# Altium footprint library Antenna Tracker.PcbLib: 17 footprints (part 1 of 2)
Each footprint in its own frame and in the unit in brackets; x right, y up, seen from the top. Pads: shape width x height; smd on the part's side, far side on the other; paste and mask are expansions set on the pad; w line width, h text height; cw(c..) or ccw(c..) is an arc to the next point about the centre after c.
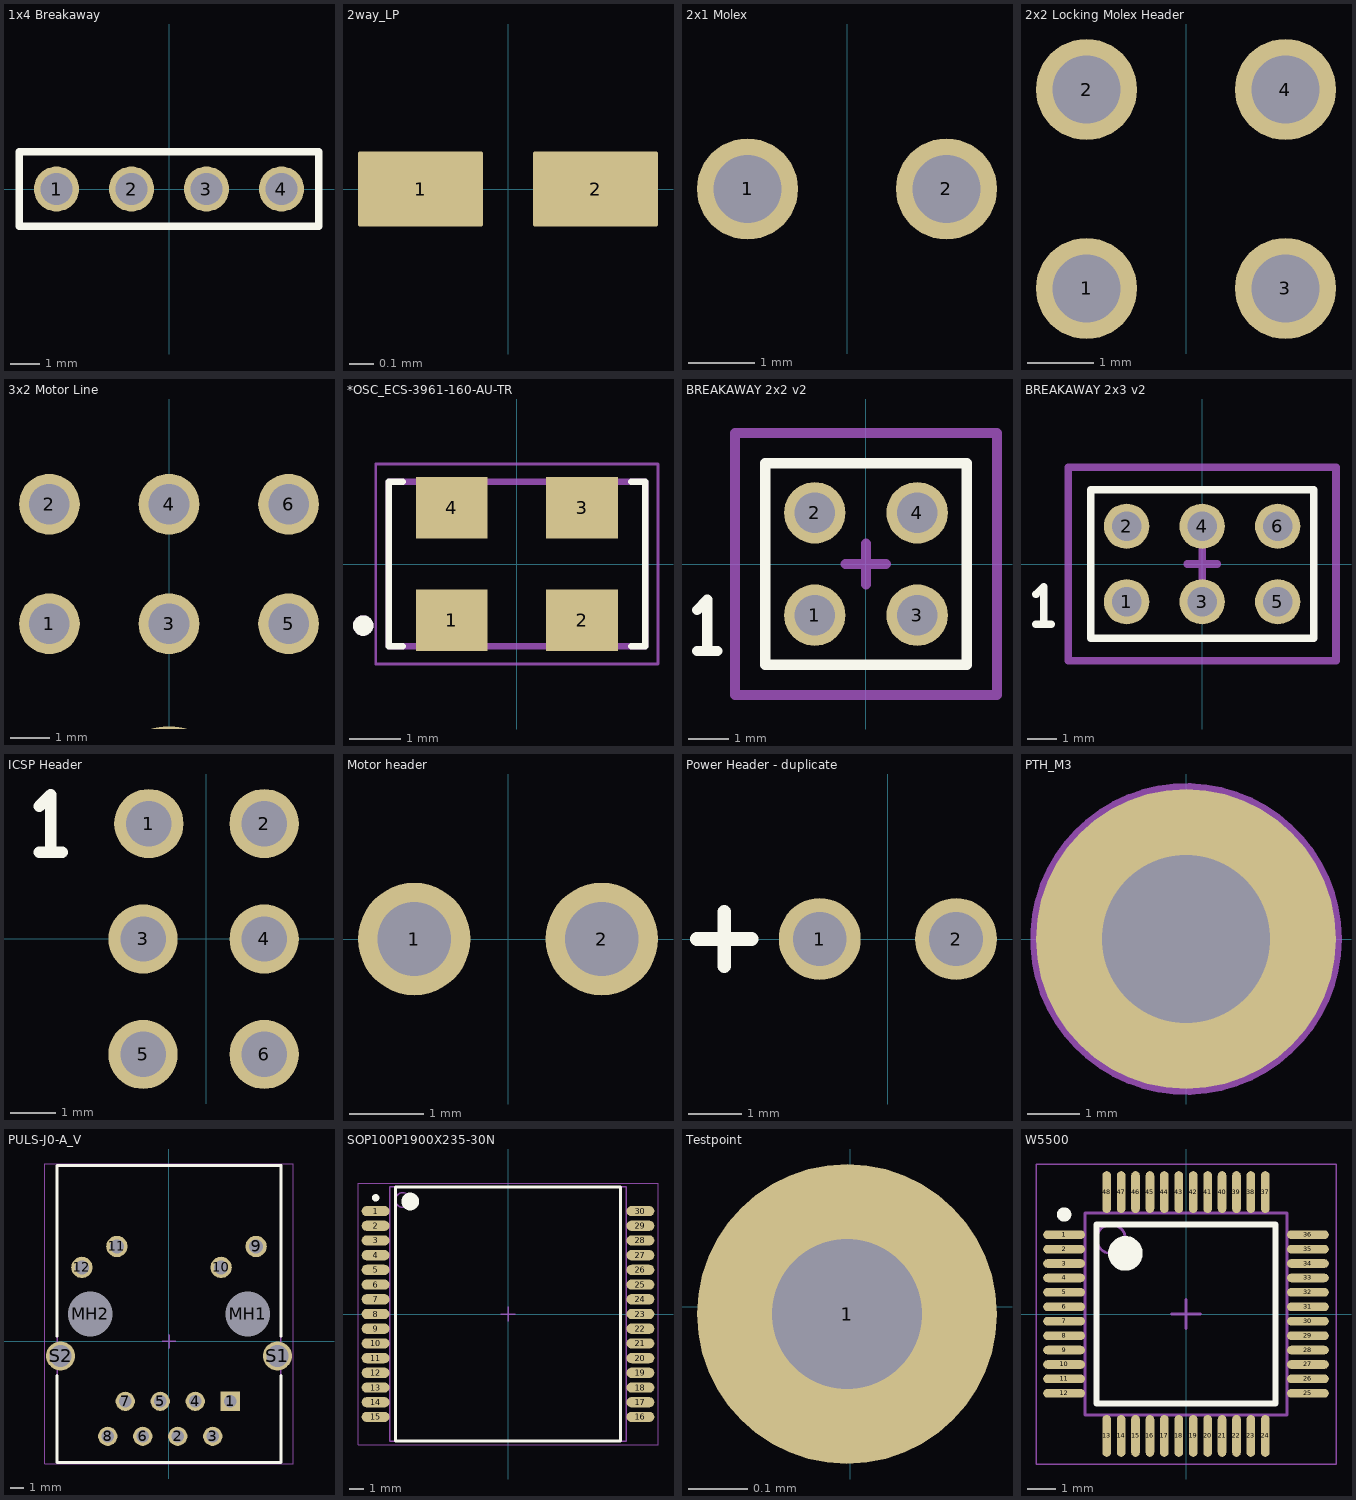
[diagram p0: the footprints below, top view; thin cyan lines are the x and y axes]

## 1x4 Breakaway [mil]
pads (4):
  round 60 hole 43.31: 1(-150,0) 2(-50,0) 3(50,0) 4(150,0)
Top Overlay:
  lines w10: -200,-50 200,-50 200,50 -200,50 -200,-50

## 2way_LP [mil] "2 way low power net tie junction"
height 1
pads (2):
  rrect5% 20x12 smd paste-100: 1(-14,0) 2(14,0)

## 2x1 Molex [mm] "0436500200"
height 6
pads (2):
  round 1.524 hole 1.02: 1(-1.5,4.32) 2(1.5,4.32)
via 0,0 diameter 3.5 hole 3
3D body: height 0.25, standoff 0, extent 1.27,0.635 1.27,0.635
3D body: height 0.25, standoff 0, extent 1.651,0.508 1.651,0.508
3D body "436500200.stp": height 5.64, standoff -3.27, extent -4.825,-4.569 4.825,5.331

## 2x2 Locking Molex Header [mm] "0430450601"
height 9
pads (4):
  round 1.524 hole 1.02: 1(-1.5,4.32) 2(-1.5,7.32) 3(1.5,4.32) 4(1.5,7.32)
via 0,0 diameter 3.5 hole 3
3D body "430450401.stp": height 8.83, standoff -3.12, extent -4.948,-4.569 5.202,7.671

## 3x2 Motor Line [mm] "0430450601"
height 9
pads (6):
  round 1.524 hole 1.02: 1(-3,4.32) 2(-3,7.32) 3(0,4.32) 4(0,7.32) 5(3,4.32) 6(3,7.32)
via 0,0 diameter 3.5 hole 3
3D body "430450601.stp": height 8.83, standoff -3.12, extent -6.448,-4.569 6.702,7.671

## *OSC_ECS-3961-160-AU-TR [mm]
pads (4):
  rect 1.4x1.2 smd: 1(-1.27,-1.1) 2(1.27,-1.1) 3(1.27,1.1) 4(-1.27,1.1)
Top Overlay:
  circle w0.2: c-3,-1.2 r0.1
  lines w0.127: -2.224,-1.6 -2.5,-1.6 -2.5,1.6 -2.224,1.6 ; 2.224,-1.6 2.5,-1.6 2.5,1.6 2.224,1.6
Mechanical 13:
  circle w0.2: c-3,-1.2 r0.1
  circle w0.2: c-3,-1.2 r0.1
  lines w0.127: -2.5,-1.6 -2.5,1.6 ; -2.5,-1.6 2.5,-1.6 ; -2.5,-1.6 -2.5,1.6 ; -2.5,-1.6 2.5,-1.6 ; -2.5,1.6 2.5,1.6 ; -2.5,1.6 2.5,1.6 ; 2.5,-1.6 2.5,1.6 ; 2.5,-1.6 2.5,1.6
Mechanical 15:
  lines w0.05: -2.75,-1.95 -2.75,1.95 2.75,1.95 2.75,-1.95 -2.75,-1.95
3D body "ECS-3961-018-AU-TR--3DModel-STEP-40055.STEP": height 1.3, standoff 0, extent -2.5,-1.6 2.5,1.6

## BREAKAWAY 2x2 v2 [mil]
pads (4):
  round 60 hole 39.37: 1(-50,-50) 2(-50,50) 3(50,-50) 4(50,50)
Top Overlay:
  lines w10: -165,-85 -145,-85 ; -165,-45 -155,-35 -155,-85 ; -98.43,-98.43 -98.43,98.43 98.43,98.43 98.43,-98.43 -98.43,-98.43
Mechanical 15:
  lines w10: -19.68,0 19.68,0 ; 0,-19.68 0,19.68 ; -127.95,-127.95 -127.95,127.95 127.95,127.95 127.95,-127.95 -127.95,-127.95
3D body "901310762.stp": height 364.17, standoff -114.17, extent -100,-100 100,100

## BREAKAWAY 2x3 v2 [mil]
pads (6):
  round 60 hole 39.37: 1(-100,-50) 2(-100,50) 3(0,-50) 4(0,50) 5(100,-50) 6(100,50)
Top Overlay:
  lines w10: -220,-80 -200,-80 ; -220,-40 -210,-30 -210,-80 ; -147.64,-98.43 -147.64,98.43 147.64,98.43 147.64,-98.43 -147.64,-98.43
Mechanical 15:
  lines w10: -19.68,0 19.68,0 ; 0,-19.68 0,19.68 ; -177.17,-127.95 -177.17,118.11 -177.17,127.95 177.17,127.95 177.17,-127.95 -177.17,-127.95
3D body "901310763.stp": height 364.17, standoff -114.17, extent -150,-100 150,100

## ICSP Header [mil]
pads (6):
  round 60 hole 39.37: 1(-50,100) 2(50,100) 3(-55,0) 4(50,0) 5(-55,-100) 6(50,-100)
Top Overlay:
  lines w10: -145,75 -125,75 ; -145,115 -135,125 -135,75
3D body "010897060.stp": height 324.37, standoff -112.63, extent -105,-144.99 95,155.01

## Motor header [mil]
pads (2):
  round 60 hole 39.37: 1(-50,0) 2(50,0)

## Power Header - duplicate [mil]
pads (2):
  round 60 hole 39.37: 1(-50,0) 2(50,0)
Top Overlay:
  lines w10: -140,0 -100,0 ; -120,-20 -120,20

## PTH_M3 [mm] "Plated Through Hole, M3"
pads (1):
  round 5.715 hole 3.2 paste+0: ""(0,0)
Assembly Bottom:
  circle w0.254: c0,0 r2.843
  lines w0.254: -0.3,0 0.3,0 ; 0,-0.3 0,0.3

## PULS-J0-A_V [mm] "THD, 12-Leads, Body 21.59x16.26mm, Pitch 1.27mm"
height 13.84
pads (16):
  rect 1.4x1.4 hole 0.89: 1(4.445,-4.355)
  round 1.4 hole 0.89: 2(0.635,-6.895) 3(3.175,-6.895) 4(1.905,-4.355) 5(-0.635,-4.355) 6(-1.905,-6.895) 7(-3.175,-4.355) 8(-4.445,-6.895)
  round 1.55 hole 1.02: 9(6.325,6.895) 10(3.785,5.375) 11(-3.785,6.895) 12(-6.325,5.375)
  round 2.95 hole 3.25 unplated: MH1(5.715,1.995) MH2(-5.715,1.995)
  round 2.1 hole 1.6: S1(7.875,-1.055) S2(-7.875,-1.055)
Top Overlay:
  lines w0.2: -8.13,-2.482 -8.13,-8.805 8.13,-8.805 8.13,-2.482 ; -8.13,0.372 -8.13,12.785 8.13,12.785 8.13,0.372 ; 8.129,12.795 8.13,12.794
Mechanical 13:
  lines w0.1: -8.13,-8.805 -8.13,12.785 8.13,12.785 8.13,-8.805 -8.13,-8.805
Mechanical 15:
  lines w0.05: -9.025,-8.905 9.025,-8.905 9.025,12.885 -9.025,12.885 -9.025,-8.905
  lines w0.1: -0.5,0 0.5,0 ; 0,-0.5 0,0.5
3D body: height 13.84, standoff 0, extent -8.13,-8.805 8.13,12.785

## SOP100P1900X235-30N [mm] "SOP, 30-Leads, Body 17.20x16.00mm, Pitch 1.00mm, IPC Medium Density"
height 2.35
pads (30):
  oval 1.9x0.7 smd: 1(-9,7) 2(-9,6) 3(-9,5) 4(-9,4) 5(-9,3) 6(-9,2) 7(-9,1) 8(-9,0) 9(-9,-1) 10(-9,-2) 11(-9,-3) 12(-9,-4) 13(-9,-5) 14(-9,-6) 15(-9,-7) 16(9,-7) 17(9,-6) 18(9,-5) 19(9,-4) 20(9,-3) 21(9,-2) 22(9,-1) 23(9,0) 24(9,1) 25(9,2) 26(9,3) 27(9,4) 28(9,5) 29(9,6) 30(9,7)
Top Overlay:
  circle w0.25: c-9,7.9 r0.125
  circle w0.6: c-6.65,7.65 r0.3
  lines w0.2: -7.65,-8.65 -7.65,8.65 7.65,8.65 7.65,-8.65 -7.65,-8.65
Mechanical 13:
  circle w0.1: c-7.15,7.75 r0.5
  lines w0.1: -8.05,-8.65 -8.05,8.65 8.05,8.65 8.05,-8.65 -8.05,-8.65
Mechanical 15:
  lines w0.05: -10.2,-8.9 -10.2,8.9 10.2,8.9 10.2,-8.9 -10.2,-8.9
  lines w0.1: -0.5,0 0.5,0 ; 0,-0.5 0,0.5
3D body "SOP100P1900X235-30N.step": height 2.35, standoff 0, extent -9.5,-8.65 9.5,8.65

## Testpoint [mil]
pads (1):
  round 20 hole 10: 1(-0.2,-0.5)

## W5500 [mm] "TSQFP, 48-Leads, Body 7.00x7.00mm, Pitch 0.50mm, IPC Medium Density"
height 1.6
pads (48):
  oval 1.45x0.3 smd: 1(-4.225,2.75) 2(-4.225,2.25) 3(-4.225,1.75) 4(-4.225,1.25) 5(-4.225,0.75) 6(-4.225,0.25) 7(-4.225,-0.25) 8(-4.225,-0.75) 9(-4.225,-1.25) 10(-4.225,-1.75) 11(-4.225,-2.25) 12(-4.225,-2.75) 25(4.225,-2.75) 26(4.225,-2.25) 27(4.225,-1.75) 28(4.225,-1.25) 29(4.225,-0.75) 30(4.225,-0.25) 31(4.225,0.25) 32(4.225,0.75) 33(4.225,1.25) 34(4.225,1.75) 35(4.225,2.25) 36(4.225,2.75)
  oval 0.3x1.45 smd: 13(-2.75,-4.225) 14(-2.25,-4.225) 15(-1.75,-4.225) 16(-1.25,-4.225) 17(-0.75,-4.225) 18(-0.25,-4.225) 19(0.25,-4.225) 20(0.75,-4.225) 21(1.25,-4.225) 22(1.75,-4.225) 23(2.25,-4.225) 24(2.75,-4.225) 37(2.75,4.225) 38(2.25,4.225) 39(1.75,4.225) 40(1.25,4.225) 41(0.75,4.225) 42(0.25,4.225) 43(-0.25,4.225) 44(-0.75,4.225) 45(-1.25,4.225) 46(-1.75,4.225) 47(-2.25,4.225) 48(-2.75,4.225)
Top Overlay:
  circle w0.25: c-4.225,3.45 r0.125
  circle w0.6: c-2.1,2.1 r0.3
  lines w0.2: -3.1,-3.1 -3.1,3.1 3.1,3.1 3.1,-3.1 -3.1,-3.1
Assembly Top:
  circle w0.1: c-2.6,2.6 r0.5
  lines w0.1: -3.5,-3.5 -3.5,3.5 3.5,3.5 3.5,-3.5 -3.5,-3.5
Courtyard Top:
  lines w0.05: -5.2,-5.2 -5.2,5.2 5.2,5.2 5.2,-5.2 -5.2,-5.2
  lines w0.1: -0.5,0 0.5,0 ; 0,-0.5 0,0.5
3D body "TSQFP50P900X900X160-48N.step": height 1.6, standoff 0, extent -4.5,-4.5 4.5,4.5